# EAGLE library part UP1FLEXC22NODI (library ads4)
Altera UP-1 FLEX10 Port C 8-Wire Connector (no DI pins)
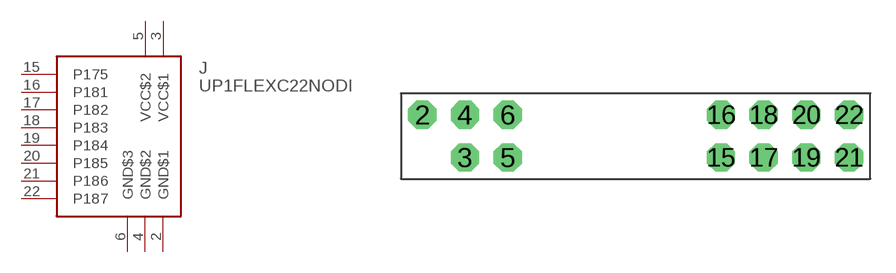
[diagram p5: symbol with the pads of CON22P2RNOMIDDLE; footprint CON22P2RNOMIDDLE]

Designator prefix J

## UP1FLEXC22NODIN  [CON22P2RNOMIDDLE]
2  GND$1  pwr
3  VCC$1  pwr
4  GND$2  pwr
5  VCC$2  pwr
6  GND$3  pwr
15  P175  in
16  P181  in
17  P182  in
18  P183  in
19  P184  in
20  P185  in
21  P186  in
22  P187  in

## Footprint CON22P2RNOMIDDLE (pad centres in mm)
22-pin Dual Row 0.1" Connector With Missing Middle Pins
drill 1.016 pad 1.676 octagon: 2 -12.7,1.27; 3 -10.16,-1.27; 4 -10.16,1.27; 5 -7.62,-1.27; 6 -7.62,1.27; 15 5.08,-1.27; 16 5.08,1.27; 17 7.62,-1.27; 18 7.62,1.27; 19 10.16,-1.27; 20 10.16,1.27; 21 12.7,-1.27; 22 12.7,1.27